# Altium schematic symbol library TPS74201.SchLib: 1 symbol
Pins are listed as number, name and electrical type; pins without a type are passive.

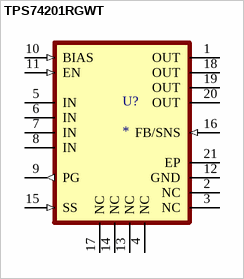
[diagram p0: symbol TPS74201RGWT]

## TPS74201RGWT
designator U?
MP: TPS74201RGWT; Package: None; Price: None; Value: *; Availability: Unavailable
footprint QFN65P500X500X100-21N
pins: 1 OUT, 2 NC (power), 3 NC (power), 4 NC (power), 5 IN, 6 IN, 7 IN, 8 IN, 9 PG (out), 10 BIAS (in), 11 EN (in), 12 GND (power), 13 NC (power), 14 NC (power), 15 SS (in), 16 FB/SNS (in), 17 NC (power), 18 OUT, 19 OUT, 20 OUT, 21 EP